# Altium schematic symbol library ZX20-B-SLDC.Schlib: 1 symbol
Pins are listed as number, name and electrical type; pins without a type are passive.

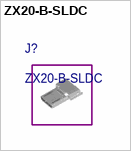
[diagram p0: symbol ZX20-B-SLDC]

## ZX20-B-SLDC
designator J?